# Altium footprint library lightshow.PcbLib: 3 footprints
Each footprint in its own frame and in the unit in brackets; x right, y up, seen from the top. Pads: shape width x height; smd on the part's side, far side on the other; paste and mask are expansions set on the pad; w line width, h text height; cw(c..) or ccw(c..) is an arc to the next point about the centre after c.
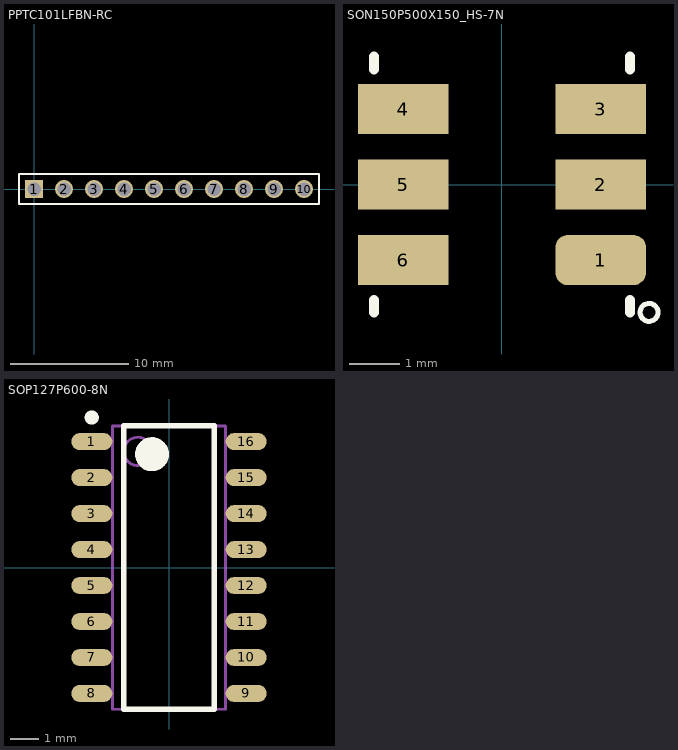
[diagram p0: the footprints below, top view; thin cyan lines are the x and y axes]

## PPTC101LFBN-RC [mil] "Sullins 10 Pin .100 spacing Femal connector - Single Role"
height 0.34
pads (10):
  rect 60x60 hole 45: 1(0,0)
  round 60 hole 45: 2(100,0) 3(200,0) 4(300,0) 5(400,0) 6(500,0) 7(600,0) 8(700,0) 9(800,0) 10(900,0)
Top Overlay:
  lines w8: -50,-50 -50,50 950,50 950,-50 -50,-50

## SON150P500X150_HS-7N [mm] "SON, 6-Leads, Body 5.00x5.00mm, Pitch 1.50mm, Thermal Pad 4.00x1.50mm, IPC Medium Density"
height 1.5
pads (6):
  rrect50% 1.8x1 smd: 1(1.96,-1.5)
  rect 1.8x1 smd: 2(1.96,0) 3(1.96,1.5) 4(-1.96,1.5) 5(-1.96,0) 6(-1.96,-1.5)
Top Overlay:
  circle w0.1: c2.921,-2.54 r0.178
  lines w0.2: -2.54,-2.54 -2.54,-2.29 ; -2.54,2.29 -2.54,2.54 ; 2.54,-2.54 2.54,-2.29 ; 2.54,2.29 2.54,2.54

## SOP127P600-8N [mm]
height 1.75
pads (16):
  oval 1.45x0.6 smd: 1(-2.725,4.445) 2(-2.725,3.175) 3(-2.725,1.905) 4(-2.725,0.635) 5(-2.725,-0.635) 6(-2.725,-1.905) 7(-2.725,-3.175) 8(-2.725,-4.445) 9(2.725,-4.445) 10(2.725,-3.175) 11(2.725,-1.905) 12(2.725,-0.635) 13(2.725,0.635) 14(2.725,1.905) 15(2.725,3.175) 16(2.725,4.445)
Top Overlay:
  circle w0.25: c-2.725,5.295 r0.125
  circle w0.6: c-0.6,4 r0.3
  lines w0.2: -1.6,-5 -1.6,5 1.6,5 1.6,-5 -1.6,-5
Mechanical 13:
  circle w0.1: c-1.1,4.1 r0.5
  lines w0.1: -2,-5 -2,5 2,5 2,-5 -2,-5
3D body: height 1.75, standoff 0.25, extent -2,-5 2,5